# Altium schematic symbol library stm32.SchLib: 22 symbols
Pins are listed as number, name and electrical type; pins without a type are passive.

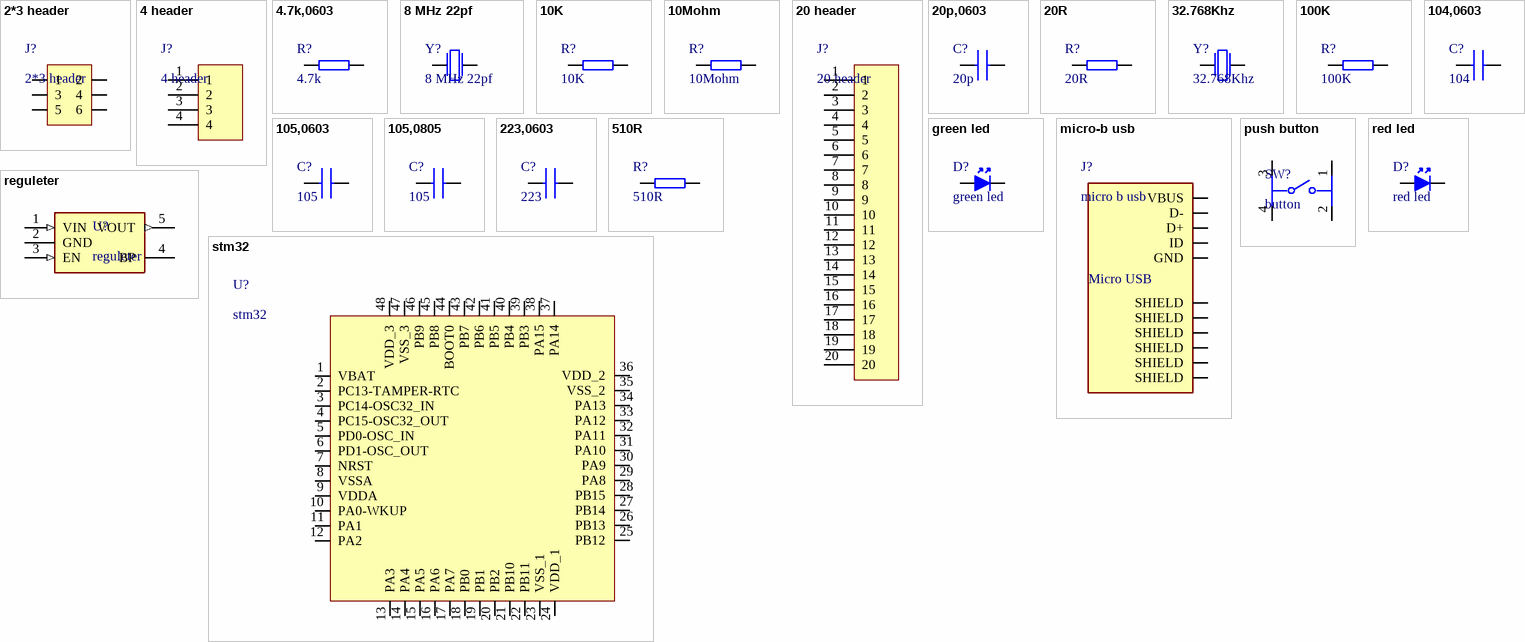
[diagram p0: symbols 2*3 header to stm32]

## 2*3 header
designator J?
footprint 2*3 header
pins: 1, 2, 3, 4, 5, 6

## 4 header
designator J?
footprint 4 header
pins: 1, 2, 3, 4

## 4.7k,0603
designator R?, comment 4.7k
0603
footprint res 0603
pins: 1, 2

## 8 MHz 22pf
designator Y?
8 MHz ±30ppm Crystal 22pF 80 Ohms HC-49/US; digkey: 9C-8.000MAAL-T-ND; JLCPCB Part #: C6109242
footprint 8MHz cristal
pins: 1, 2

## 10K
designator R?
0603
footprint res 0603
pins: 1, 2

## 10Mohm
designator R?
10 MOhms ±5% 0.125W, 1/8W Chip Resistor 0805 (2012 Metric) High Voltage, Non-Magnetic Thick Film; digkey: 696-HVS0805-10MJ1CT-ND; JLCPCB Part #: C4095037
footprint res 0603
pins: 1, 2

## 20 header
designator J?
footprint 20*1 header
pins: 1, 2, 3, 4, 5, 6, 7, 8, 9, 10, 11, 12, 13, 14, 15, 16, 17, 18, 19, 20

## 20p,0603
designator C?, comment 20p
0603
footprint cap 0603
pins: 1, 2

## 20R
designator R?
0603
footprint res 0603
pins: 1, 2

## 32.768Khz
designator Y?
footprint 32.768KHZ
pins: 1, 2

## 100K
designator R?
0603
footprint res 0603
pins: 1, 2

## 104,0603
designator C?, comment 104
0603
footprint cap 0603
pins: 1, 2

## 105,0603
designator C?, comment 105
0603
footprint cap 0603
pins: 1, 2

## 105,0805
designator C?, comment 105
0805
footprint CAP 0805 (Chip Capacitor, 2-Leads, Body 1.00x0.50mm, IPC Medium Density)
pins: 1, 2

## 223,0603
designator C?, comment 223
0603
footprint cap 0603
pins: 1, 2

## 510R
designator R?
0603
footprint res 0603
pins: 1, 2

## green led
designator D?
footprint led green
pins: 1, 2

## micro-b usb
designator J?, comment micro b usb
footprint micro-b usb
pins: 1 VBUS (power), 2 D- (io), 3 D+ (io), 4 ID (io), 5 GND (power), SH1 SHIELD (power), SH2 SHIELD (power), SH3 SHIELD (power), SH4 SHIELD (power), SH5 SHIELD (power), SH6 SHIELD (power)
text: Micro USB

## push button
designator SW?, comment button
Keypad Switch, 0.05A, 12VDC, 2.55N, , Surface Mount-straight; Manufacturer: ITT C&K; Manufacturer Part Number: PTS645SK43SMTR92LFS; Manufacturer Series: PTS645; Actuator Type: Pushbutton; Contact Current(DC)-Max: 50mA; Contact DC Max Rating R Load: 0.05A@12VDC; Contact Resistance: 0.1mR; Contact Voltage(DC)-Max: 12V; Dielectric Withstand Volts: 250VACV; Insulation Resistance: 100GR; PCB Hole Count: 4; Switch Action: MOMENTARY; Switch Function: SPST; Body Breadth: 5.9944mm; Body Height: 3.4544mm; Supplier: Digikey; Supplier Part Number: CKN9084CT-ND; RoHS: Yes; Category: Tactile Switches; Stock: 133695; Pricing: 1=0.32, 10=0.275, 25=0.2576, 100=0.2307, 250=0.2138, 500=0.20176 (USD); Mounting Technology: Surface Mount; Terminal Finish: Silver; Min Operating Temperature: -20°C; Max Operating Temperature: 60°C; JESD-609 Code: e4; Switch Type: Keypad; Termination: Solder; Body Length or Diameter: 5.9944mm; Terminal Length: 0.138inch; Reach SVHC Compliant: Yes; RoHS Compliant: Yes; ComponentLink1URL: https://datasheet.ciiva.com:443/pdfs/VipMasterIC/IC/CKCI/CKCI-S-A0001796527/CKCI-S-A0001796842-1.pdf?src-supplier=IHS+Markit; ComponentLink1Description: https://datasheet.ciiva.com:443/pdfs/VipMasterIC/IC/CKCI/CKCI-S-A0001796527/CKCI-S-A0001796842-1.pdf?src-supplier=IHS+Markit; ComponentLink2URL: https://datasheet.ciiva.com/14920/pts645-9sept14-14920736.pdf?src-supplier=Digikey; ComponentLink2Description: https://datasheet.ciiva.com/14920/pts645-9sept14-14920736.pdf?src-supplier=Digikey; ComponentLink3URL: https://datasheet.ciiva.com/29903/getdatasheetpartid-790637-29903897.pdf?src-supplier=Verical; ComponentLink3Description: https://datasheet.ciiva.com/29903/getdatasheetpartid-790637-29903897.pdf?src-supplier=Verical; ComponentLink4URL: https://datasheet.ciiva.com/22637/1707731-22637357.pdf?src-supplier=Element14; ComponentLink4Description: https://datasheet.ciiva.com/22637/1707731-22637357.pdf?src-supplier=Element14; LCSC part Number: C221871
footprint button
pins: 1, 2, 3, 4

## red led
designator D?
footprint red led
pins: 1, 2

## reguleter
designator U?
Linear Voltage Regulator IC Positive Fixed 1 Output 300mA TSOT-23-5; MP: RT9193-33GB; MF: Richtek USA; SnapEDA_Link: https://www.snapeda.com/parts/RT9193-33GB/Richtek+USA+Inc./view-part/?ref=snap; Package: SOT-23-5 Richtek; Check_prices: https://www.snapeda.com/parts/RT9193-33GB/Richtek+USA+Inc./view-part/?ref=eda; Purchase-URL: https://pricing.snapeda.com/search/part/RT9193-33GB/?ref=eda; Digi-Key_Part_Number: 1028-1014-2-ND; Value: *
footprint reguleter
pins: 1 VIN (in), 2 GND (power), 3 EN (in), 4 BP, 5 VOUT (out)

## stm32
designator U?
footprint stm32
pins: 1 VBAT, 2 PC13-TAMPER-RTC, 3 PC14-OSC32_IN, 4 PC15-OSC32_OUT, 5 PD0-OSC_IN, 6 PD1-OSC_OUT, 7 NRST, 8 VSSA, 9 VDDA, 10 PA0-WKUP, 11 PA1, 12 PA2, 13 PA3, 14 PA4, 15 PA5, 16 PA6, 17 PA7, 18 PB0, 19 PB1, 20 PB2, 21 PB10, 22 PB11, 23 VSS_1, 24 VDD_1, 25 PB12, 26 PB13, 27 PB14, 28 PB15, 29 PA8, 30 PA9, 31 PA10, 32 PA11, 33 PA12, 34 PA13, 35 VSS_2, 36 VDD_2, 37 PA14, 38 PA15, 39 PB3, 40 PB4, 41 PB5, 42 PB6, 43 PB7, 44 BOOT0, 45 PB8, 46 PB9, 47 VSS_3, 48 VDD_3